# Altium footprint library Fuse clip 5x20.PcbLib: 1 footprints
Each footprint in its own frame and in the unit in brackets; x right, y up, seen from the top. Pads: shape width x height; smd on the part's side, far side on the other; paste and mask are expansions set on the pad; w line width, h text height; cw(c..) or ccw(c..) is an arc to the next point about the centre after c.
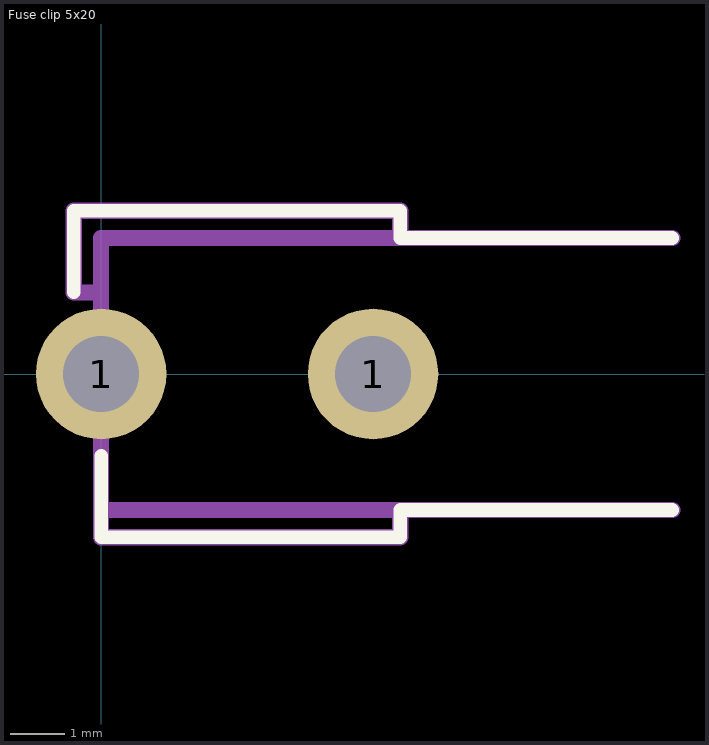
[diagram p0: the footprint, top view; thin cyan lines are the x and y axes]

## Fuse clip 5x20 [mm]
pads (2):
  round 2.4 hole 1.4: 1(0,0) 1(5,0)
Top Overlay:
  lines w0.25: -0.5,1.5 -0.5,3 5.5,3 5.5,2.5 10.5,2.5 ; 0,-1.5 0,-3 5.5,-3 5.5,-2.5 10.5,-2.5
Mechanical 1:
  lines w0.3: 0,-2.5 10.5,-2.5 ; 0,1.5 -0.5,1.5 -0.5,3 5.5,3 5.5,2.5 ; 5.5,-2.5 5.5,-3 0,-3 0,-2 0,2.5 10.5,2.5
3D body "Fuse_clips_5x20.STEP": height 7.81, standoff -3.69, extent -0.05,-2.9 5.05,2.894